# EAGLE library part LIS3LV02 (library X893)
Accelerometer http://www.terraelectronica.ru/pdf/ST/LIS3LV02.pdf
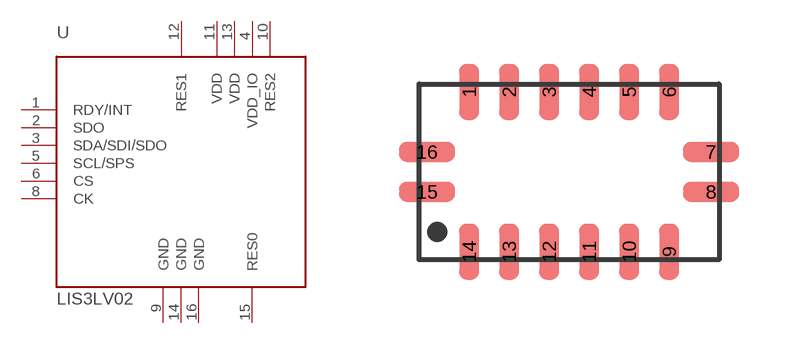
[diagram p7: symbol with the pads of LIS3LV02; footprint LIS3LV02]

Designator prefix U

## LIS3LV02  [LIS3LV02]
1  RDY/INT  out
2  SDO
3  SDA/SDI/SDO
4  VDD_IO
5  SCL/SPS  in
6  CS  in
8  CK
9  GND  sup
10  RES2
11  VDD
12  RES1
13  VDD
14  GND  sup
15  RES0
16  GND  sup

## Footprint LIS3LV02 (pad centres in mm)
smd 0.5 x 1.4: 1 -2.5,2; 2 -1.5,2; 3 -0.5,2; 4 0.5,2; 5 1.5,2; 6 2.5,2; 9 2.5,-2; 10 1.5,-2; 11 0.5,-2; 12 -0.5,-2; 13 -1.5,-2; 14 -2.5,-2
smd 1.4 x 0.5: 7 3.55,0.5; 8 3.55,-0.5; 15 -3.55,-0.5; 16 -3.55,0.5